# Altium integrated library TI Power Management Lighting and Display.IntLib: 745 symbols (part 39 of 48)
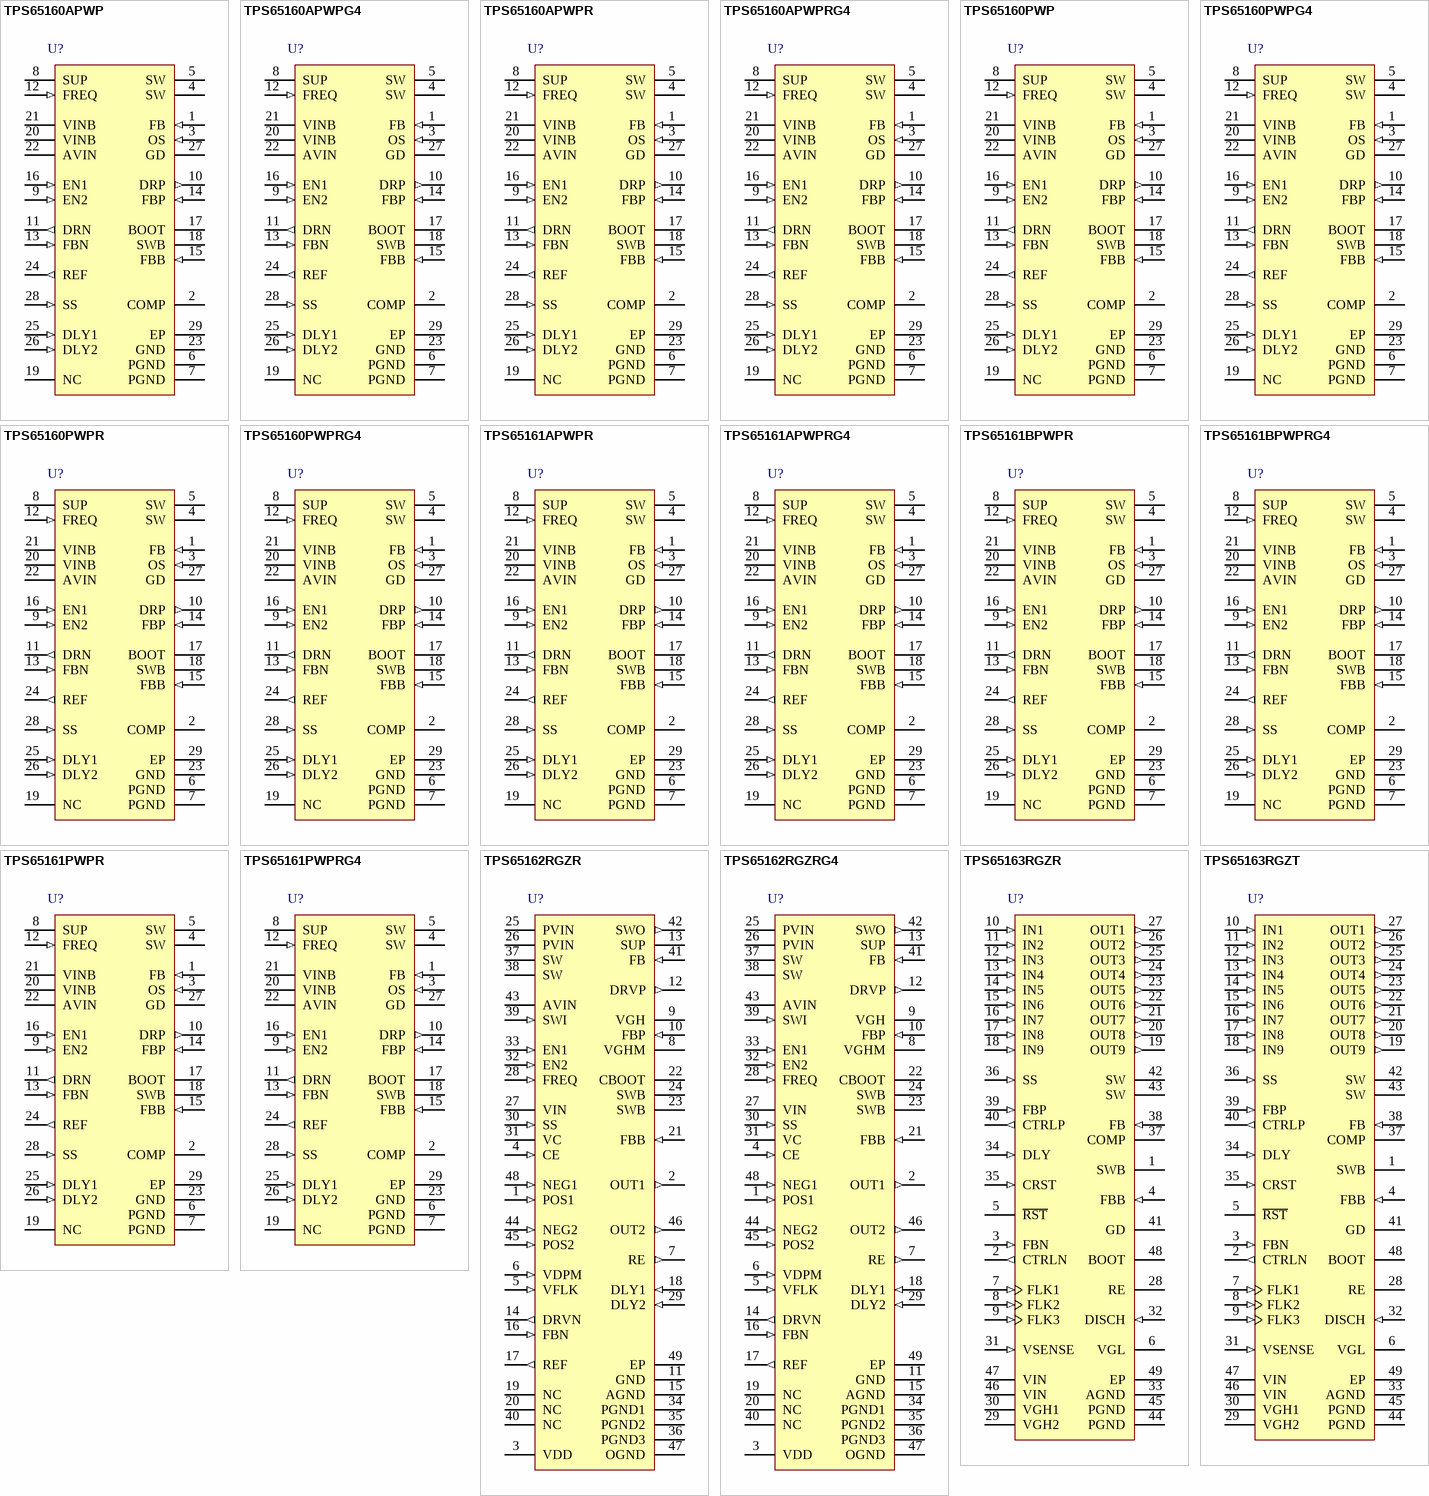
[diagram p69: symbols TPS65160APWP to TPS65163RGZT]

## TPS65161BPWPRG4
designator U?
4-Channel LCD Bias, 8 to 14.7 V, -40 to 85 degC, 28-pin SOP (PWP28), Green (RoHS & no Sb/Br); Manufacturer: Texas Instruments; PartNumber: TPS65161BPWPRG4; Rating: Catalog; SubFamily: LCD/OLED Display Bias Solutions; Switching Frequency(Typ)(kHz): 500, 750; Topology: Buck, Boost, Inverting Buck/Boost; Vin(Max)(V): 14.7; Vin(Min)(V): 8; DatasheetVersion: SLVS617D; PackageVersion: 4073225-6/I; PackageReference: PWP28-5720X1950TP; PackageDescription: 28-Pin Plastic Small Outline, Body 4.4 x 9.7 mm, Pitch 0.65 mm; Supplier 1: Digi-Key; Supplier Part Number 1: TPS65161BPWPRG4-ND; Supplier 2: Mouser; Supplier Part Number 2: 595-TPS65161BPWPRG4; Eco-Plan: Green (RoHS & no Sb/Br); Mounting Technology: Surface Mount; Code_JEDEC: MO-153; ComponentLink1Description: Manufacturer URL; ComponentLink1URL: http://www.ti.com/; ComponentLink2Description: Datasheet; ComponentLink2URL: http://www.ti.com/general/docs/lit/getliterature.tsp?genericPartNumber=TPS65161B&fileType=pdf; ComponentLink3Description: Package Specification; ComponentLink3URL: http://www.ti.com/litv/pdf/mpds373
footprint TI-PWP28-5720X1950TP_N (SOP, 28-Leads, Body 9.7x4.4mm, Pitch 0.65mm, Thermal Pad 5.72 x 1.95mm, IPC Medium Density)
footprint TI-PWP28-5720X1950TP_L (SOP, 28-Leads, Body 9.7x4.4mm, Pitch 0.65mm, Thermal Pad 5.72 x 1.95mm, IPC High Density)
footprint TI-PWP28-5720X1950TP_M (SOP, 28-Leads, Body 9.7x4.4mm, Pitch 0.65mm, Thermal Pad 5.72 x 1.95mm, IPC Low Density)
pins: 1 FB (in) "Feedback of the main boost converter generating Vsource (VS).", 2 COMP "This is the compensation pin for the main boost converter. A small capacitor and, if required, a resistor is connected to this pin.", 3 OS (in) "Output sense pin. The OS pin is connected to the internal rectifier switch and overvoltage protection comparator. This pin needs to be connected to the output of the boost converter and cannot be connected to any other (See Datasheet)", 4 SW (power) "Switch pin of the boost converter generating Vsource (VS).", 5 SW (power) "Switch pin of the boost converter generating Vsource (VS).", 6 PGND (power) "Power ground", 7 PGND (power) "Power ground", 8 SUP (power) "This is the supply pin of the positive charge pump driver and can be connected to the input supply VIN or the output of the main boost converter VS. This depends mainly on the desired output voltage VGH and numbers of charge (See Datasheet)", 9 EN2 (in) "The boost converter starts only with EN1 = high, after the step-down converter is enabled. EN2 is the enable pin of the boost converter and positive charge pump. When this pin is pulled high, the boost converter and positive (See Datasheet)", 10 DRP (out) "Drive pin of the positive charge pump.", 11 DRN (out) "Drive pin of the negative charge pump.", 12 FREQ (in) "Frequency adjust pin. This pin allows setting the switching frequency with a logic level to 500 kHz = low and 750 kHz = high.", 13 FBN (in) "Feedback pin of negative charge pump.", 14 FBP (in) "Feedback pin of positive charge pump.", 15 FBB (in) "Feedback pin of the buck converter", 16 EN1 (in) "This is the enable pin of the buck converter and negative charge pump. When this pin is pulled high, the buck converter starts up, and after a delay time set by DLY1, the negative charge pump comes up. This pin must be (See Datasheet)", 17 BOOT "N-channel MOSFET gate drive voltage for the buck converter. Connect a capacitor from the switch node SWB to this pin.", 18 SWB (power) "Switch pin of the buck converter", 19 NC "Not connected", 20 VINB (power) "Power input voltage pin for the buck converter.", 21 VINB (power) "Power input voltage pin for the buck converter.", 22 AVIN (power) "Analog input voltage of the device. This is the input for the analog circuits of the device and should be bypassed with a 1-uF ceramic capacitor for good filtering.", 23 GND (power) "Analog ground", 24 REF (out) "Internal reference output typically 1.213 V. A 220-nF capacitor needs to be connected to this pin.", 25 DLY1 (in) "Connecting a capacitor from this pin to GND allows the setting of the delay time between V(LOGIC) (step-down converter output high) to VGL during start-up.", 26 DLY2 (in) "Connecting a capacitor from this pin to GND allows the setting of the delay time between V(LOGIC) (step-down converter output high) to VS boost converter and positive charge-pump VGH during start-up.", 27 GD (hiz) "This is the gate drive pin which can be used to control an external MOSFET switch to provide input to output isolation of VS or VGH. See the circuit diagrams at the end of this data sheet. GD is an open-drain output and is (See Datasheet)", 28 SS (in) "This pin allows setting the soft-start time for the main boost converter VS. Typically a 22-nF capacitor needs to be connected to this pin to set the soft-start time.", 29 EP (power) "The thermally enhanced PowerPAD is connected to PGND."

## TPS65161PWPR
designator U?
4-Channel LCD Bias, 8 to 14.7 V, -40 to 85 degC, 28-pin SOP (PWP28), Green (RoHS & no Sb/Br); Manufacturer: Texas Instruments; PartNumber: TPS65161PWPR; Rating: Catalog; SubFamily: LCD/OLED Display Bias Solutions; Switching Frequency(Typ)(kHz): 750, 500; Topology: Buck, Boost, Inverting Buck/Boost; Vin(Max)(V): 14.7; Vin(Min)(V): 8; DatasheetVersion: SLVS617D; PackageVersion: 4073225-6/I; PackageReference: PWP28-5720X1950TP; PackageDescription: 28-Pin Plastic Small Outline, Body 4.4 x 9.7 mm, Pitch 0.65 mm; Supplier 1: Digi-Key; Supplier Part Number 1: 296-19673-2-ND; Supplier 2: Digi-Key; Supplier Part Number 2: 296-19673-1-ND; Supplier 3: Digi-Key; Supplier Part Number 3: 296-19673-6-ND; Supplier 4: Newark; Supplier Part Number 4: 88K7078; Supplier 5: Mouser; Supplier Part Number 5: 595-TPS65161PWPR; Eco-Plan: Green (RoHS & no Sb/Br); Mounting Technology: Surface Mount; Code_JEDEC: MO-153; ComponentLink1Description: Manufacturer URL; ComponentLink1URL: http://www.ti.com/; ComponentLink2Description: Datasheet; ComponentLink2URL: http://www.ti.com/general/docs/lit/getliterature.tsp?genericPartNumber=TPS65161&fileType=pdf; ComponentLink3Description: Package Specification; ComponentLink3URL: http://www.ti.com/litv/pdf/mpds373
footprint TI-PWP28-5720X1950TP_N (SOP, 28-Leads, Body 9.7x4.4mm, Pitch 0.65mm, Thermal Pad 5.72 x 1.95mm, IPC Medium Density)
footprint TI-PWP28-5720X1950TP_L (SOP, 28-Leads, Body 9.7x4.4mm, Pitch 0.65mm, Thermal Pad 5.72 x 1.95mm, IPC High Density)
footprint TI-PWP28-5720X1950TP_M (SOP, 28-Leads, Body 9.7x4.4mm, Pitch 0.65mm, Thermal Pad 5.72 x 1.95mm, IPC Low Density)
pins: 1 FB (in) "Feedback of the main boost converter generating Vsource (VS).", 2 COMP "This is the compensation pin for the main boost converter. A small capacitor and, if required, a resistor is connected to this pin.", 3 OS (in) "Output sense pin. The OS pin is connected to the internal rectifier switch and overvoltage protection comparator. This pin needs to be connected to the output of the boost converter and cannot be connected to any other (See Datasheet)", 4 SW (power) "Switch pin of the boost converter generating Vsource (VS).", 5 SW (power) "Switch pin of the boost converter generating Vsource (VS).", 6 PGND (power) "Power ground", 7 PGND (power) "Power ground", 8 SUP (power) "This is the supply pin of the positive charge pump driver and can be connected to the input supply VIN or the output of the main boost converter VS. This depends mainly on the desired output voltage VGH and numbers of charge (See Datasheet)", 9 EN2 (in) "The boost converter starts only with EN1 = high, after the step-down converter is enabled. EN2 is the enable pin of the boost converter and positive charge pump. When this pin is pulled high, the boost converter and positive (See Datasheet)", 10 DRP (out) "Drive pin of the positive charge pump.", 11 DRN (out) "Drive pin of the negative charge pump.", 12 FREQ (in) "Frequency adjust pin. This pin allows setting the switching frequency with a logic level to 500 kHz = low and 750 kHz = high.", 13 FBN (in) "Feedback pin of negative charge pump.", 14 FBP (in) "Feedback pin of positive charge pump.", 15 FBB (in) "Feedback pin of the buck converter", 16 EN1 (in) "This is the enable pin of the buck converter and negative charge pump. When this pin is pulled high, the buck converter starts up, and after a delay time set by DLY1, the negative charge pump comes up. This pin must be (See Datasheet)", 17 BOOT "N-channel MOSFET gate drive voltage for the buck converter. Connect a capacitor from the switch node SWB to this pin.", 18 SWB (power) "Switch pin of the buck converter", 19 NC "Not connected", 20 VINB (power) "Power input voltage pin for the buck converter.", 21 VINB (power) "Power input voltage pin for the buck converter.", 22 AVIN (power) "Analog input voltage of the device. This is the input for the analog circuits of the device and should be bypassed with a 1-uF ceramic capacitor for good filtering.", 23 GND (power) "Analog ground", 24 REF (out) "Internal reference output typically 1.213 V. A 220-nF capacitor needs to be connected to this pin.", 25 DLY1 (in) "Connecting a capacitor from this pin to GND allows the setting of the delay time between V(LOGIC) (step-down converter output high) to VGL during start-up.", 26 DLY2 (in) "Connecting a capacitor from this pin to GND allows the setting of the delay time between V(LOGIC) (step-down converter output high) to VS boost converter and positive charge-pump VGH during start-up.", 27 GD (hiz) "This is the gate drive pin which can be used to control an external MOSFET switch to provide input to output isolation of VS or VGH. See the circuit diagrams at the end of this data sheet. GD is an open-drain output and is (See Datasheet)", 28 SS (in) "This pin allows setting the soft-start time for the main boost converter VS. Typically a 22-nF capacitor needs to be connected to this pin to set the soft-start time.", 29 EP (power) "The thermally enhanced PowerPAD is connected to PGND."

## TPS65161PWPRG4
designator U?
4-Channel LCD Bias, 8 to 14.7 V, -40 to 85 degC, 28-pin SOP (PWP28), Green (RoHS & no Sb/Br); Manufacturer: Texas Instruments; PartNumber: TPS65161PWPRG4; Rating: Catalog; SubFamily: LCD/OLED Display Bias Solutions; Switching Frequency(Typ)(kHz): 750, 500; Topology: Buck, Boost, Inverting Buck/Boost; Vin(Max)(V): 14.7; Vin(Min)(V): 8; DatasheetVersion: SLVS617D; PackageVersion: 4073225-6/I; PackageReference: PWP28-5720X1950TP; PackageDescription: 28-Pin Plastic Small Outline, Body 4.4 x 9.7 mm, Pitch 0.65 mm; Supplier 1: Digi-Key; Supplier Part Number 1: TPS65161PWPRG4-ND; Supplier 2: Mouser; Supplier Part Number 2: 595-TPS65161PWPRG4; Eco-Plan: Green (RoHS & no Sb/Br); Mounting Technology: Surface Mount; Code_JEDEC: MO-153; ComponentLink1Description: Manufacturer URL; ComponentLink1URL: http://www.ti.com/; ComponentLink2Description: Datasheet; ComponentLink2URL: http://www.ti.com/general/docs/lit/getliterature.tsp?genericPartNumber=TPS65161&fileType=pdf; ComponentLink3Description: Package Specification; ComponentLink3URL: http://www.ti.com/litv/pdf/mpds373
footprint TI-PWP28-5720X1950TP_N (SOP, 28-Leads, Body 9.7x4.4mm, Pitch 0.65mm, Thermal Pad 5.72 x 1.95mm, IPC Medium Density)
footprint TI-PWP28-5720X1950TP_L (SOP, 28-Leads, Body 9.7x4.4mm, Pitch 0.65mm, Thermal Pad 5.72 x 1.95mm, IPC High Density)
footprint TI-PWP28-5720X1950TP_M (SOP, 28-Leads, Body 9.7x4.4mm, Pitch 0.65mm, Thermal Pad 5.72 x 1.95mm, IPC Low Density)
pins: 1 FB (in) "Feedback of the main boost converter generating Vsource (VS).", 2 COMP "This is the compensation pin for the main boost converter. A small capacitor and, if required, a resistor is connected to this pin.", 3 OS (in) "Output sense pin. The OS pin is connected to the internal rectifier switch and overvoltage protection comparator. This pin needs to be connected to the output of the boost converter and cannot be connected to any other (See Datasheet)", 4 SW (power) "Switch pin of the boost converter generating Vsource (VS).", 5 SW (power) "Switch pin of the boost converter generating Vsource (VS).", 6 PGND (power) "Power ground", 7 PGND (power) "Power ground", 8 SUP (power) "This is the supply pin of the positive charge pump driver and can be connected to the input supply VIN or the output of the main boost converter VS. This depends mainly on the desired output voltage VGH and numbers of charge (See Datasheet)", 9 EN2 (in) "The boost converter starts only with EN1 = high, after the step-down converter is enabled. EN2 is the enable pin of the boost converter and positive charge pump. When this pin is pulled high, the boost converter and positive (See Datasheet)", 10 DRP (out) "Drive pin of the positive charge pump.", 11 DRN (out) "Drive pin of the negative charge pump.", 12 FREQ (in) "Frequency adjust pin. This pin allows setting the switching frequency with a logic level to 500 kHz = low and 750 kHz = high.", 13 FBN (in) "Feedback pin of negative charge pump.", 14 FBP (in) "Feedback pin of positive charge pump.", 15 FBB (in) "Feedback pin of the buck converter", 16 EN1 (in) "This is the enable pin of the buck converter and negative charge pump. When this pin is pulled high, the buck converter starts up, and after a delay time set by DLY1, the negative charge pump comes up. This pin must be (See Datasheet)", 17 BOOT "N-channel MOSFET gate drive voltage for the buck converter. Connect a capacitor from the switch node SWB to this pin.", 18 SWB (power) "Switch pin of the buck converter", 19 NC "Not connected", 20 VINB (power) "Power input voltage pin for the buck converter.", 21 VINB (power) "Power input voltage pin for the buck converter.", 22 AVIN (power) "Analog input voltage of the device. This is the input for the analog circuits of the device and should be bypassed with a 1-uF ceramic capacitor for good filtering.", 23 GND (power) "Analog ground", 24 REF (out) "Internal reference output typically 1.213 V. A 220-nF capacitor needs to be connected to this pin.", 25 DLY1 (in) "Connecting a capacitor from this pin to GND allows the setting of the delay time between V(LOGIC) (step-down converter output high) to VGL during start-up.", 26 DLY2 (in) "Connecting a capacitor from this pin to GND allows the setting of the delay time between V(LOGIC) (step-down converter output high) to VS boost converter and positive charge-pump VGH during start-up.", 27 GD (hiz) "This is the gate drive pin which can be used to control an external MOSFET switch to provide input to output isolation of VS or VGH. See the circuit diagrams at the end of this data sheet. GD is an open-drain output and is (See Datasheet)", 28 SS (in) "This pin allows setting the soft-start time for the main boost converter VS. Typically a 22-nF capacitor needs to be connected to this pin to set the soft-start time.", 29 EP (power) "The thermally enhanced PowerPAD is connected to PGND."

## TPS65162RGZR
designator U?
4-Channel LCD Bias with Integrated Input-to-Output Isolation Switch, 2 Op-Amps & GPM, 8 to 14.7 V, -40 to 85 degC, 48-pin QFN (RGZ48), Green (RoHS & no Sb/Br); Manufacturer: Texas Instruments; PartNumber: TPS65162RGZR; Rating: Catalog; SubFamily: LCD/OLED Display Bias Solutions; Switching Frequency(Typ)(kHz): 750, 500; Vin(Max)(V): 14.7; Vin(Min)(V): 8; DatasheetVersion: SLVS771C; PackageVersion: 4204101/F; PackageReference: RGZ48-4100X4100TP; PackageDescription: 48-Pin Plastic Flat Pack, Body 7 x 7 mm, Pitch 0.5 mm; Supplier 1: Digi-Key; Supplier Part Number 1: 296-21974-2-ND; Supplier 2: Digi-Key; Supplier Part Number 2: 296-21974-1-ND; Supplier 3: Digi-Key; Supplier Part Number 3: 296-21974-6-ND; Supplier 4: Newark; Supplier Part Number 4: 46M9314; Supplier 5: Mouser; Supplier Part Number 5: 595-TPS65162RGZR; Eco-Plan: Green (RoHS & no Sb/Br); Mounting Technology: Surface Mount; Code_JEDEC: MO-220; ComponentLink1Description: Manufacturer URL; ComponentLink1URL: http://www.ti.com/; ComponentLink2Description: Datasheet; ComponentLink2URL: http://www.ti.com/general/docs/lit/getliterature.tsp?genericPartNumber=TPS65162&fileType=pdf; ComponentLink3Description: Package Specification; ComponentLink3URL: http://www.ti.com/lit/ds/symlink/sn75dp139.pdf
footprint TI-RGZ48-4100X4100TP_V (QFN, 48-Leads, Body 7x7mm, Pitch 0.5mm, Thermal Pad 4.1x4.1mm)
pins: 1 POS1 (in) "Non inverting input of Operational Amplifier 1", 2 OUT1 (out) "Output of Operational Amplifier 1.", 3 VDD (power) "Threshold voltage of gate voltage shaping. The tive times of voltage applied to this pin set the threshold discharge voltage for the gate voltage shaping function", 4 CE (in) "Delay of gate voltage shaping. Sets the delay between the falling edge of VFLK to the falling edge of VGHM", 5 VFLK (in) "Control of gate voltage shaping.", 6 VDPM (in) "Enable of gate voltage shaping block.", 7 RE (out) "Slope adjustment of gate voltage shaping. Connecting a resistor to this pin allows to adjust the slop of gate voltage shaping.", 8 VGHM (hiz) "Output of the gate voltage shaping block.", 9 VGH (power) "High voltage for gate voltage shaping block. Connect the output of the positive charge pump to this pin.", 10 FBP (in) "Feedback of the positive charge pump.", 11 GND (power) "Ground for positive and negative charge pump.", 12 DRVP (out) "Drive pin of the positive charge pump.", 13 SUP (power) "Supply pin of the positive charge pump", 14 DRVN (out) "Drive pin of the negative charge pump", 15 AGND (power) "Analog ground", 16 FBN (in) "Feedback of the negative charge pump.", 17 REF (out) "Internal reference output. Connect 220-nF capacitor directly from this pin to AGND to minimize possible noise coupling into the reference of the IC.", 18 DLY1 (in) "Connecting a capacitor from this pin to GND allows setting the delay time between the step down converter and negative charge pump VGL", 19 NC "Not connected.", 20 NC "Not connected.", 21 FBB (in) "Feedback of the buck converter.", 22 CBOOT (power) "N-channel MOSFET gate drive voltage for the buck converter. Connect a capacitor from this pin to SWB.", 23 SWB (power) "Switch pin of the buck converter", 24 SWB (power) "Switch pin of the buck converter", 25 PVIN (power) "Power input for the buck converter.", 26 PVIN (power) "Power input for the buck converter.", 27 VIN (power) "Analog input voltage of the device. This pin should be bypassed with a 1-uF capacitor for good filtering.", 28 FREQ (in) "Frequency selection pin. With FREQ=high, the device operates with 750 kHz. With FREQ=Iow, the device operates with 500kHz.", 29 DLY2 (in) "Connecting a capacitor from this pin to GND allows setting the delay time between the step down converter and positive charge pump VGH.", 30 SS (in) "soft-start of the boost converter. Connect a capacitor from this pin to GND.", 31 VC (power) "Compensation pin of the boost converter.", 32 EN2 (in) "Enable pin of the boost converter block.", 33 EN1 (in) "Enable pin of the buck converter and negative charge pump. When this pin is pulled high, the buck converter starts up, and after a delay time set by DLY1, the negative charge pump starts up. A logic high enables the device (See Datasheet)", 34 PGND1 (power) "Power ground.", 35 PGND2 (power) "Ground for boost converter.", 36 PGND3 (power) "Ground for boost converter.", 37 SW (power) "Switch pin of the boost converter", 38 SW (power) "Switch pin of the boost converter", 39 SWI (in) "Input of the isolation switch. The SWI pin is connected to internal overvoltage protection comparator.", 40 NC "Not connected.", 41 FB (in) "Feedback of the boost converter generating Vs", 42 SWO (out) "Output of the isolation switch", 43 AVIN (power) "Power input voltage pin for Operational Amplifier. Connect AVIN to the input of the isolation switch, SWI Bypass this pin with a 1-uF bypass capacitor.", 44 NEG2 (in) "Inverting input of Operational Amplifier 2", 45 POS2 (in) "Non inverting input of Operational Amplifier 2", 46 OUT2 (out) "Output of Operational Amplifier 2", 47 OGND (power) "Ground for Operational Amplifier.", 48 NEG1 (in) "Inverting input of Operational Amplifier 1", 49 EP (power)

## TPS65162RGZRG4
designator U?
4-Channel LCD Bias with Integrated Input-to-Output Isolation Switch, 2 Op-Amps & GPM, 8 to 14.7 V, -40 to 85 degC, 48-pin QFN (RGZ48), Green (RoHS & no Sb/Br); Manufacturer: Texas Instruments; PartNumber: TPS65162RGZRG4; Rating: Catalog; SubFamily: LCD/OLED Display Bias Solutions; Switching Frequency(Typ)(kHz): 750, 500; Vin(Max)(V): 14.7; Vin(Min)(V): 8; DatasheetVersion: SLVS771C; PackageVersion: 4204101/F; PackageReference: RGZ48-4100X4100TP; PackageDescription: 48-Pin Plastic Flat Pack, Body 7 x 7 mm, Pitch 0.5 mm; Supplier 1: Digi-Key; Supplier Part Number 1: TPS65162RGZRG4-ND; Supplier 2: Newark; Supplier Part Number 2: 52M6149; Supplier 3: Mouser; Supplier Part Number 3: 595-TPS65162RGZRG4; Eco-Plan: Green (RoHS & no Sb/Br); Mounting Technology: Surface Mount; Code_JEDEC: MO-220; ComponentLink1Description: Manufacturer URL; ComponentLink1URL: http://www.ti.com/; ComponentLink2Description: Datasheet; ComponentLink2URL: http://www.ti.com/general/docs/lit/getliterature.tsp?genericPartNumber=TPS65162&fileType=pdf; ComponentLink3Description: Package Specification; ComponentLink3URL: http://www.ti.com/lit/ds/symlink/sn75dp139.pdf
footprint TI-RGZ48-4100X4100TP_V (QFN, 48-Leads, Body 7x7mm, Pitch 0.5mm, Thermal Pad 4.1x4.1mm)
pins: 1 POS1 (in) "Non inverting input of Operational Amplifier 1", 2 OUT1 (out) "Output of Operational Amplifier 1.", 3 VDD (power) "Threshold voltage of gate voltage shaping. The tive times of voltage applied to this pin set the threshold discharge voltage for the gate voltage shaping function", 4 CE (in) "Delay of gate voltage shaping. Sets the delay between the falling edge of VFLK to the falling edge of VGHM", 5 VFLK (in) "Control of gate voltage shaping.", 6 VDPM (in) "Enable of gate voltage shaping block.", 7 RE (out) "Slope adjustment of gate voltage shaping. Connecting a resistor to this pin allows to adjust the slop of gate voltage shaping.", 8 VGHM (hiz) "Output of the gate voltage shaping block.", 9 VGH (power) "High voltage for gate voltage shaping block. Connect the output of the positive charge pump to this pin.", 10 FBP (in) "Feedback of the positive charge pump.", 11 GND (power) "Ground for positive and negative charge pump.", 12 DRVP (out) "Drive pin of the positive charge pump.", 13 SUP (power) "Supply pin of the positive charge pump", 14 DRVN (out) "Drive pin of the negative charge pump", 15 AGND (power) "Analog ground", 16 FBN (in) "Feedback of the negative charge pump.", 17 REF (out) "Internal reference output. Connect 220-nF capacitor directly from this pin to AGND to minimize possible noise coupling into the reference of the IC.", 18 DLY1 (in) "Connecting a capacitor from this pin to GND allows setting the delay time between the step down converter and negative charge pump VGL", 19 NC "Not connected.", 20 NC "Not connected.", 21 FBB (in) "Feedback of the buck converter.", 22 CBOOT (power) "N-channel MOSFET gate drive voltage for the buck converter. Connect a capacitor from this pin to SWB.", 23 SWB (power) "Switch pin of the buck converter", 24 SWB (power) "Switch pin of the buck converter", 25 PVIN (power) "Power input for the buck converter.", 26 PVIN (power) "Power input for the buck converter.", 27 VIN (power) "Analog input voltage of the device. This pin should be bypassed with a 1-uF capacitor for good filtering.", 28 FREQ (in) "Frequency selection pin. With FREQ=high, the device operates with 750 kHz. With FREQ=Iow, the device operates with 500kHz.", 29 DLY2 (in) "Connecting a capacitor from this pin to GND allows setting the delay time between the step down converter and positive charge pump VGH.", 30 SS (in) "soft-start of the boost converter. Connect a capacitor from this pin to GND.", 31 VC (power) "Compensation pin of the boost converter.", 32 EN2 (in) "Enable pin of the boost converter block.", 33 EN1 (in) "Enable pin of the buck converter and negative charge pump. When this pin is pulled high, the buck converter starts up, and after a delay time set by DLY1, the negative charge pump starts up. A logic high enables the device (See Datasheet)", 34 PGND1 (power) "Power ground.", 35 PGND2 (power) "Ground for boost converter.", 36 PGND3 (power) "Ground for boost converter.", 37 SW (power) "Switch pin of the boost converter", 38 SW (power) "Switch pin of the boost converter", 39 SWI (in) "Input of the isolation switch. The SWI pin is connected to internal overvoltage protection comparator.", 40 NC "Not connected.", 41 FB (in) "Feedback of the boost converter generating Vs", 42 SWO (out) "Output of the isolation switch", 43 AVIN (power) "Power input voltage pin for Operational Amplifier. Connect AVIN to the input of the isolation switch, SWI Bypass this pin with a 1-uF bypass capacitor.", 44 NEG2 (in) "Inverting input of Operational Amplifier 2", 45 POS2 (in) "Non inverting input of Operational Amplifier 2", 46 OUT2 (out) "Output of Operational Amplifier 2", 47 OGND (power) "Ground for Operational Amplifier.", 48 NEG1 (in) "Inverting input of Operational Amplifier 1", 49 EP (power)

## TPS65163RGZR
designator U?
4-Channel LCD Bias with Integrated 9-Channel Level Shifter, 8.6 to 14.7 V, -40 to 85 degC, 48-pin QFN (RGZ48), Green (RoHS & no Sb/Br); Manufacturer: Texas Instruments; PartNumber: TPS65163RGZR; Iout(Max)(A): 2; Iq(Typ)(mA): 5; Rating: Catalog; SubFamily: LCD/OLED Display Bias Solutions; Switching Frequency(Typ)(kHz): 750; Topology: Buck, Boost, Charge Pump; Vin(Max)(V): 14.7; Vin(Min)(V): 8.6; DatasheetVersion: SLVSA28; PackageVersion: 4204101/F; PackageReference: RGZ48-5600X5600TP; PackageDescription: 48-Lead, Plastic Flat Pack, Body Size 7 x 7 mm, Pitch 0.5 mm; Supplier 1: Digi-Key; Supplier Part Number 1: 296-25464-2-ND; Supplier 2: Digi-Key; Supplier Part Number 2: 296-25464-1-ND; Supplier 3: Digi-Key; Supplier Part Number 3: 296-25464-6-ND; Supplier 4: Newark; Supplier Part Number 4: 55R7630; Supplier 5: Mouser; Supplier Part Number 5: 595-TPS65163RGZR; Eco-Plan: Green (RoHS & no Sb/Br); Mounting Technology: Surface Mount; Code_JEDEC: MO-220; ComponentLink1Description: Manufacturer URL; ComponentLink1URL: http://www.ti.com/; ComponentLink2Description: Datasheet; ComponentLink2URL: http://www.ti.com/general/docs/lit/getliterature.tsp?genericPartNumber=TPS65163&fileType=pdf; ComponentLink3Description: Package Specification; ComponentLink3URL: http://www.ti.com/lit/ml/mpqf123e/mpqf123e.pdf
footprint TI-RGZ48-5600X5600TP_V (QFN, 48-Leads, Body 7x7mm, Pitch 0.5mm, Thermal Pad 5.6x5.6mm)
pins: 1 SWB (power) "Buck converter switch node", 2 CTRLN (out) "Base drive signal for an external transistor positive linear regulator", 3 FBN (in) "Feedback pin for an external transistor positive linear regulator", 4 FBB (in) "Buck converter feedback connection", 5 ~{RST} (oc) "Reset generator open-drain output", 6 VGL (power) "Negative supply voltage for level-shifter channels 1 through 9", 7 FLK1 (in) "Flicker clock for level-shifter channels 1 and 4", 8 FLK2 (in) "Flicker clock for level-shifter channels 2 and 5", 9 FLK3 (in) "Flicker clock for level-shifter channels 3 and 6", 10 IN1 (in) "Inputs for level-shifter channels 1 through 7 (connected to VGH1)", 11 IN2 (in) "Inputs for level-shifter channels 1 through 7 (connected to VGH1)", 12 IN3 (in) "Inputs for level-shifter channels 1 through 7 (connected to VGH1)", 13 IN4 (in) "Inputs for level-shifter channels 1 through 7 (connected to VGH1)", 14 IN5 (in) "Inputs for level-shifter channels 1 through 7 (connected to VGH1)", 15 IN6 (in) "Inputs for level-shifter channels 1 through 7 (connected to VGH1)", 16 IN7 (in) "Inputs for level-shifter channels 1 through 7 (connected to VGH1)", 17 IN8 (in) "Inputs for level-shifter channels 8 and 9 (connected to VGH2)", 18 IN9 (in) "Inputs for level-shifter channels 8 and 9 (connected to VGH2)", 19 OUT9 (out) "Outputs for level-shifter channels 8 and 9 (connected to VGH2)", 20 OUT8 (out) "Outputs for level-shifter channels 8 and 9 (connected to VGH2)", 21 OUT7 (out) "Outputs for level-shifter channels 1 through 7 (connected to VGH1)", 22 OUT6 (out) "Outputs for level-shifter channels 1 through 7 (connected to VGH1)", 23 OUT5 (out) "Outputs for level-shifter channels 1 through 7 (connected to VGH1)", 24 OUT4 (out) "Outputs for level-shifter channels 1 through 7 (connected to VGH1)", 25 OUT3 (out) "Outputs for level-shifter channels 1 through 7 (connected to VGH1)", 26 OUT2 (out) "Outputs for level-shifter channels 1 through 7 (connected to VGH1)", 27 OUT1 (out) "Outputs for level-shifter channels 1 through 7 (connected to VGH1)", 28 RE "Gate shaping slope resistor connection", 29 VGH2 (power) "Positive supply voltage for level-shifter channels 8 and 9", 30 VGH1 (power) "Positive supply voltage for level-shifter channels 1 through 7", 31 VSENSE (in) "Discharge sense voltage", 32 DISCH (in) "Panel discharging connection", 33 AGND (power) "Analog ground", 34 DLY (in) "Positive charge pump and boost converter delay capacitor connection", 35 CRST (in) "Reset generator timing capacitor connection.", 36 SS (in) "Soft-start timing-capacitor connection.", 37 COMP "Boost converter compensation network connection.", 38 FB (in) "Boost regulator feedback. Connect this pin to the center of a resistor divider connected between the boost converter output and AGND.", 39 FBP (in) "Feedback pin for an external transistor negative linear regulator", 40 CTRLP (out) "Base drive signal for an external transistor negative linear regulator", 41 GD (oc) "Gate drive signal for the external MOSFET isolation switch", 42 SW (power) "Boost converter switching node", 43 SW (power) "Boost converter switching node", 44 PGND (power) "Power ground", 45 PGND (power) "Power ground", 46 VIN (power) "Supply-voltage connection", 47 VIN (power) "Supply-voltage connection", 48 BOOT "Buck converter bootstrap capacitor connection", 49 EP (power) "Connect to the system GND"

## TPS65163RGZT
designator U?
4-Channel LCD Bias with Integrated 9-Channel Level Shifter, 8.6 to 14.7 V, -40 to 85 degC, 48-pin QFN (RGZ48), Green (RoHS & no Sb/Br); Manufacturer: Texas Instruments; PartNumber: TPS65163RGZT; Iout(Max)(A): 2; Iq(Typ)(mA): 5; Rating: Catalog; SubFamily: LCD/OLED Display Bias Solutions; Switching Frequency(Typ)(kHz): 750; Topology: Buck, Boost, Charge Pump; Vin(Max)(V): 14.7; Vin(Min)(V): 8.6; DatasheetVersion: SLVSA28; PackageVersion: 4204101/F; PackageReference: RGZ48-5600X5600TP; PackageDescription: 48-Lead, Plastic Flat Pack, Body Size 7 x 7 mm, Pitch 0.5 mm; Supplier 1: Digi-Key; Supplier Part Number 1: TPS65163RGZT-ND; Supplier 2: Newark; Supplier Part Number 2: 55R7631; Supplier 3: Mouser; Supplier Part Number 3: 595-TPS65163RGZT; Eco-Plan: Green (RoHS & no Sb/Br); Mounting Technology: Surface Mount; Code_JEDEC: MO-220; ComponentLink1Description: Manufacturer URL; ComponentLink1URL: http://www.ti.com/; ComponentLink2Description: Datasheet; ComponentLink2URL: http://www.ti.com/general/docs/lit/getliterature.tsp?genericPartNumber=TPS65163&fileType=pdf; ComponentLink3Description: Package Specification; ComponentLink3URL: http://www.ti.com/lit/ml/mpqf123e/mpqf123e.pdf
footprint TI-RGZ48-5600X5600TP_V (QFN, 48-Leads, Body 7x7mm, Pitch 0.5mm, Thermal Pad 5.6x5.6mm)
pins: 1 SWB (power) "Buck converter switch node", 2 CTRLN (out) "Base drive signal for an external transistor positive linear regulator", 3 FBN (in) "Feedback pin for an external transistor positive linear regulator", 4 FBB (in) "Buck converter feedback connection", 5 ~{RST} (oc) "Reset generator open-drain output", 6 VGL (power) "Negative supply voltage for level-shifter channels 1 through 9", 7 FLK1 (in) "Flicker clock for level-shifter channels 1 and 4", 8 FLK2 (in) "Flicker clock for level-shifter channels 2 and 5", 9 FLK3 (in) "Flicker clock for level-shifter channels 3 and 6", 10 IN1 (in) "Inputs for level-shifter channels 1 through 7 (connected to VGH1)", 11 IN2 (in) "Inputs for level-shifter channels 1 through 7 (connected to VGH1)", 12 IN3 (in) "Inputs for level-shifter channels 1 through 7 (connected to VGH1)", 13 IN4 (in) "Inputs for level-shifter channels 1 through 7 (connected to VGH1)", 14 IN5 (in) "Inputs for level-shifter channels 1 through 7 (connected to VGH1)", 15 IN6 (in) "Inputs for level-shifter channels 1 through 7 (connected to VGH1)", 16 IN7 (in) "Inputs for level-shifter channels 1 through 7 (connected to VGH1)", 17 IN8 (in) "Inputs for level-shifter channels 8 and 9 (connected to VGH2)", 18 IN9 (in) "Inputs for level-shifter channels 8 and 9 (connected to VGH2)", 19 OUT9 (out) "Outputs for level-shifter channels 8 and 9 (connected to VGH2)", 20 OUT8 (out) "Outputs for level-shifter channels 8 and 9 (connected to VGH2)", 21 OUT7 (out) "Outputs for level-shifter channels 1 through 7 (connected to VGH1)", 22 OUT6 (out) "Outputs for level-shifter channels 1 through 7 (connected to VGH1)", 23 OUT5 (out) "Outputs for level-shifter channels 1 through 7 (connected to VGH1)", 24 OUT4 (out) "Outputs for level-shifter channels 1 through 7 (connected to VGH1)", 25 OUT3 (out) "Outputs for level-shifter channels 1 through 7 (connected to VGH1)", 26 OUT2 (out) "Outputs for level-shifter channels 1 through 7 (connected to VGH1)", 27 OUT1 (out) "Outputs for level-shifter channels 1 through 7 (connected to VGH1)", 28 RE "Gate shaping slope resistor connection", 29 VGH2 (power) "Positive supply voltage for level-shifter channels 8 and 9", 30 VGH1 (power) "Positive supply voltage for level-shifter channels 1 through 7", 31 VSENSE (in) "Discharge sense voltage", 32 DISCH (in) "Panel discharging connection", 33 AGND (power) "Analog ground", 34 DLY (in) "Positive charge pump and boost converter delay capacitor connection", 35 CRST (in) "Reset generator timing capacitor connection.", 36 SS (in) "Soft-start timing-capacitor connection.", 37 COMP "Boost converter compensation network connection.", 38 FB (in) "Boost regulator feedback. Connect this pin to the center of a resistor divider connected between the boost converter output and AGND.", 39 FBP (in) "Feedback pin for an external transistor negative linear regulator", 40 CTRLP (out) "Base drive signal for an external transistor negative linear regulator", 41 GD (oc) "Gate drive signal for the external MOSFET isolation switch", 42 SW (power) "Boost converter switching node", 43 SW (power) "Boost converter switching node", 44 PGND (power) "Power ground", 45 PGND (power) "Power ground", 46 VIN (power) "Supply-voltage connection", 47 VIN (power) "Supply-voltage connection", 48 BOOT "Buck converter bootstrap capacitor connection", 49 EP (power) "Connect to the system GND"

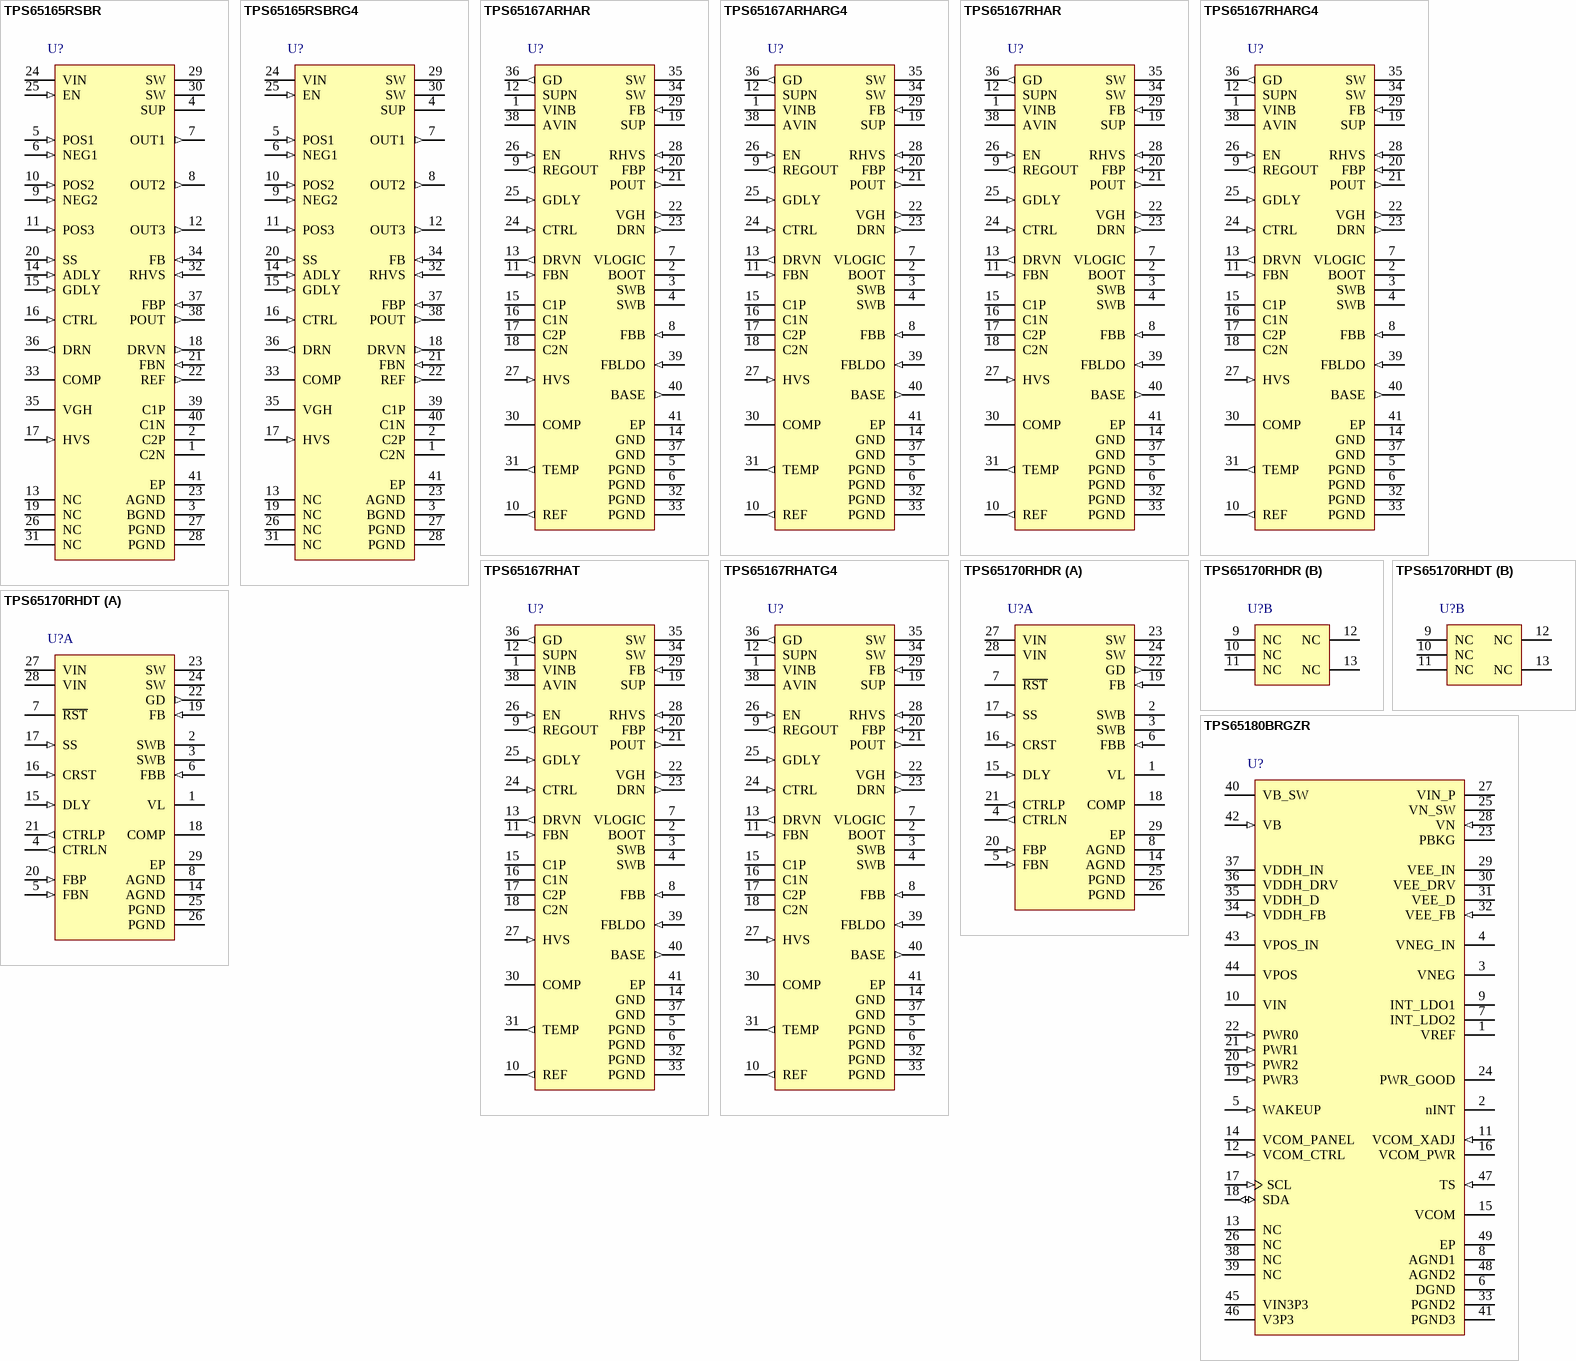
[diagram p25: symbols TPS65165RSBR to TPS65180BRGZR]

## TPS65165RSBR
designator U?
4-Channel LCD Bias with Fully Integrated Postive Charge Pump, 3.3 V LDO Controller, 2.5 to 6 V, -40 to 85 degC, 40-pin QFN (RSB40), Green (RoHS & no Sb/Br); Manufacturer: Texas Instruments; PartNumber: TPS65165RSBR; Iout(Max)(A): 1; Iq(Typ)(mA): 20; Rating: Catalog; SubFamily: LCD/OLED Display Bias Solutions; Switching Frequency(Typ)(kHz): 600; Topology: Boost, Inverting Buck/Boost; Vin(Max)(V): 6; Vin(Min)(V): 2.5; DatasheetVersion: SLVS723A; PackageVersion: 4207182/C; PackageReference: RSB40-3500X3500TP; PackageDescription: 40-Pin Plastic Flat Pack, Body 5 × 5 mm, Pitch 0.4mm; Supplier 1: Digi-Key; Supplier Part Number 1: 296-21429-2-ND; Supplier 2: Digi-Key; Supplier Part Number 2: 296-21429-1-ND; Supplier 3: Digi-Key; Supplier Part Number 3: 296-21429-6-ND; Supplier 4: Newark; Supplier Part Number 4: 27M1099; Supplier 5: Mouser; Supplier Part Number 5: 595-TPS65165RSBR; Eco-Plan: Green (RoHS & no Sb/Br); Mounting Technology: Surface Mount; ComponentLink1Description: Manufacturer URL; ComponentLink1URL: http://www.ti.com/; ComponentLink2Description: Datasheet; ComponentLink2URL: http://www.ti.com/general/docs/lit/getliterature.tsp?genericPartNumber=TPS65165&fileType=pdf; ComponentLink3Description: Package Specification; ComponentLink3URL: http://www.ti.com/lit/ml/mpqf185b/mpqf185b.pdf
footprint TI-RSB40-3500X3500TP_V (QFN, 40-Leads, Body 5x5mm, Pitch 0.4mm, Thermal Pad 3.5x3.5mm)
pins: 1 C2N "Negative terminal of the flying capacitor for the positive charge pump. Typically a 330nF flying capacitor is required.", 2 C2P "Positive terminal of the flying capacitor for the positive charge pump. Typically a 330nF flying capacitor is required.", 3 BGND (power) "Low noise ground for the operational amplifier.", 4 SUP (power) "Supply input for the operational amplifier and charge pump stages. Connect to the main output Vs, with a 1-uF bypass capacitor.", 5 POS1 (in) "Non-inverting input of Operational Amplifier 1.", 6 NEG1 (in) "Inverting input of the Operational Amplifier 1.", 7 OUT1 (out) "Output of Operational Amplifier 1. When the device is disabled, the output is pulled to GND via a 1-kohm resistor.", 8 OUT2 (out) "Output of Operational Amplifier 2. When the device is disabled, the output is pulled to GND via a 1-kohm resistor.", 9 NEG2 (in) "Inverting input of Operational Amplifier 2.", 10 POS2 (in) "Non-inverting input of Operational Amplifier 2.", 11 POS3 (in) "Non-inverting input of Operational Amplifier 3.", 12 OUT3 (out) "Output of Operational Amplifier 3. When the device is disabled, the output is pulled to GND via a 1-kohm resistor.", 13 NC "Not connected. These pin can be connected to GND to improve the thermal resistance of the package.", 14 ADLY (in) "Adjustable EN high-to-start-up delay of the main boost converter, negative and positive charge pump. Connect a capacitor from this pin to GND to set the desired delay time. (See SETTING THE DELAY TIMES ADLY, GDLY)", 15 GDLY (in) "Adjustable EN high-to-enable delay of the high-voltage switch Q8 (gate voltage shaping). Connect a capacitor from this pin to GND to set the desired delay time. (See SETTING THE DELAY TIMES ADLY, GDLY)", 16 CTRL (in) "Logic control input for the internal high voltage switch (gate voltage shaping).", 17 HVS (in) "Logic control input to enable High Voltage Stress Test. With HVS=low the high voltage stress test is disabled. With HVS=high the high voltage stress test is enabled.", 18 DRVN (out) "Drive pin for the negative charge pump converter generating VGL. Using a single stage charge pump inverts the voltage present at the main boost converter Vs and regulates it down to the desired voltage programmed by the (See Datasheet)", 19 NC "Not connected. These pin can be connected to GND to improve the thermal resistance of the package.", 20 SS (in) "Softstart for the main boost converter generating Vs. Connect a capacitor to this pin to set the softstart time.", 21 FBN (in) "Feedback of the negative charge pump converter.", 22 REF (out) "Reference output. Connect a 220-nF capacitor directly from REF pin to AGND to minimize possible noise coupling into the reference of the IC.", 23 AGND (power) "Analog Ground , positive and negative charge pump ground.", 24 VIN (power) "Supply pin for the IC. Bypass this pin with a 1-uF capacitor directly to GND.", 25 EN (in) "Enable pin of the IC. EN=high enables the IC. EN= low disables the IC. This pin must be terminated.", 26 NC "Not connected. These pin can be connected to GND to improve the thermal resistance of the package.", 27 PGND (power) "Power Ground for the boost converter.", 28 PGND (power) "Power Ground for the boost converter.", 29 SW (power) "Switch pin of the boost regulator generating Vs", 30 SW (power) "Switch pin of the boost regulator generating Vs", 31 NC "Not connected. These pin can be connected to GND to improve the thermal resistance of the package.", 32 RHVS (in) "This resistor sets the voltage of the boost converter Vs when the High Voltage Stress test is enabled. HVS=high). With HVS=high the RHVS pin is pulled to GND which sets the output voltage for the boost converter. When HVS is (See Datasheet)", 33 COMP "Compensation for the regulation loop of the boost converter generating Vs.", 34 FB (in) "Feedback of the boost converter generating Vs.", 35 VGH (power) "This is the output voltage of the internal high voltage switch, controlled by the CTRL signal.", 36 DRN (out) "Connect the discharge resistor for the Gate voltage shaping to this pin.", 37 FBP (in) "This is the feedback for the positive charge pump converter generating VGH", 38 POUT (out) "Output of the positive charge pump which is internally connected to the high voltage switch Q2. Connect a 1-uF output capacitor to this pin as well as the feedback divider to set the output voltage for the positive charge (See Datasheet)", 39 C1P "Positive terminal of the flying capacitor for the positive charge pump. Typically a 330-nF flying capacitor is required.", 40 C1N "Negative terminal of the flying capacitor for the positive charge pump. Typically a 330-nF flying capacitor is required.", 41 EP (power) "The exposed thermal die is connected to AGNG."

## TPS65165RSBRG4
designator U?
4-Channel LCD Bias with Fully Integrated Postive Charge Pump, 3.3 V LDO Controller, 2.5 to 6 V, -40 to 85 degC, 40-pin QFN (RSB40), Green (RoHS & no Sb/Br); Manufacturer: Texas Instruments; PartNumber: TPS65165RSBRG4; Iout(Max)(A): 1; Iq(Typ)(mA): 20; Rating: Catalog; SubFamily: LCD/OLED Display Bias Solutions; Switching Frequency(Typ)(kHz): 600; Topology: Boost, Inverting Buck/Boost; Vin(Max)(V): 6; Vin(Min)(V): 2.5; DatasheetVersion: SLVS723A; PackageVersion: 4207182/C; PackageReference: RSB40-3500X3500TP; PackageDescription: 40-Pin Plastic Flat Pack, Body 5 × 5 mm, Pitch 0.4mm; Supplier 1: Digi-Key; Supplier Part Number 1: TPS65165RSBRG4-ND; Supplier 2: Newark; Supplier Part Number 2: 28M7824; Supplier 3: Mouser; Supplier Part Number 3: 595-TPS65165RSBRG4; Eco-Plan: Green (RoHS & no Sb/Br); Mounting Technology: Surface Mount; ComponentLink1Description: Manufacturer URL; ComponentLink1URL: http://www.ti.com/; ComponentLink2Description: Datasheet; ComponentLink2URL: http://www.ti.com/general/docs/lit/getliterature.tsp?genericPartNumber=TPS65165&fileType=pdf; ComponentLink3Description: Package Specification; ComponentLink3URL: http://www.ti.com/lit/ml/mpqf185b/mpqf185b.pdf
footprint TI-RSB40-3500X3500TP_V (QFN, 40-Leads, Body 5x5mm, Pitch 0.4mm, Thermal Pad 3.5x3.5mm)
pins: 1 C2N "Negative terminal of the flying capacitor for the positive charge pump. Typically a 330nF flying capacitor is required.", 2 C2P "Positive terminal of the flying capacitor for the positive charge pump. Typically a 330nF flying capacitor is required.", 3 BGND (power) "Low noise ground for the operational amplifier.", 4 SUP (power) "Supply input for the operational amplifier and charge pump stages. Connect to the main output Vs, with a 1-uF bypass capacitor.", 5 POS1 (in) "Non-inverting input of Operational Amplifier 1.", 6 NEG1 (in) "Inverting input of the Operational Amplifier 1.", 7 OUT1 (out) "Output of Operational Amplifier 1. When the device is disabled, the output is pulled to GND via a 1-kohm resistor.", 8 OUT2 (out) "Output of Operational Amplifier 2. When the device is disabled, the output is pulled to GND via a 1-kohm resistor.", 9 NEG2 (in) "Inverting input of Operational Amplifier 2.", 10 POS2 (in) "Non-inverting input of Operational Amplifier 2.", 11 POS3 (in) "Non-inverting input of Operational Amplifier 3.", 12 OUT3 (out) "Output of Operational Amplifier 3. When the device is disabled, the output is pulled to GND via a 1-kohm resistor.", 13 NC "Not connected. These pin can be connected to GND to improve the thermal resistance of the package.", 14 ADLY (in) "Adjustable EN high-to-start-up delay of the main boost converter, negative and positive charge pump. Connect a capacitor from this pin to GND to set the desired delay time. (See SETTING THE DELAY TIMES ADLY, GDLY)", 15 GDLY (in) "Adjustable EN high-to-enable delay of the high-voltage switch Q8 (gate voltage shaping). Connect a capacitor from this pin to GND to set the desired delay time. (See SETTING THE DELAY TIMES ADLY, GDLY)", 16 CTRL (in) "Logic control input for the internal high voltage switch (gate voltage shaping).", 17 HVS (in) "Logic control input to enable High Voltage Stress Test. With HVS=low the high voltage stress test is disabled. With HVS=high the high voltage stress test is enabled.", 18 DRVN (out) "Drive pin for the negative charge pump converter generating VGL. Using a single stage charge pump inverts the voltage present at the main boost converter Vs and regulates it down to the desired voltage programmed by the (See Datasheet)", 19 NC "Not connected. These pin can be connected to GND to improve the thermal resistance of the package.", 20 SS (in) "Softstart for the main boost converter generating Vs. Connect a capacitor to this pin to set the softstart time.", 21 FBN (in) "Feedback of the negative charge pump converter.", 22 REF (out) "Reference output. Connect a 220-nF capacitor directly from REF pin to AGND to minimize possible noise coupling into the reference of the IC.", 23 AGND (power) "Analog Ground , positive and negative charge pump ground.", 24 VIN (power) "Supply pin for the IC. Bypass this pin with a 1-uF capacitor directly to GND.", 25 EN (in) "Enable pin of the IC. EN=high enables the IC. EN= low disables the IC. This pin must be terminated.", 26 NC "Not connected. These pin can be connected to GND to improve the thermal resistance of the package.", 27 PGND (power) "Power Ground for the boost converter.", 28 PGND (power) "Power Ground for the boost converter.", 29 SW (power) "Switch pin of the boost regulator generating Vs", 30 SW (power) "Switch pin of the boost regulator generating Vs", 31 NC "Not connected. These pin can be connected to GND to improve the thermal resistance of the package.", 32 RHVS (in) "This resistor sets the voltage of the boost converter Vs when the High Voltage Stress test is enabled. HVS=high). With HVS=high the RHVS pin is pulled to GND which sets the output voltage for the boost converter. When HVS is (See Datasheet)", 33 COMP "Compensation for the regulation loop of the boost converter generating Vs.", 34 FB (in) "Feedback of the boost converter generating Vs.", 35 VGH (power) "This is the output voltage of the internal high voltage switch, controlled by the CTRL signal.", 36 DRN (out) "Connect the discharge resistor for the Gate voltage shaping to this pin.", 37 FBP (in) "This is the feedback for the positive charge pump converter generating VGH", 38 POUT (out) "Output of the positive charge pump which is internally connected to the high voltage switch Q2. Connect a 1-uF output capacitor to this pin as well as the feedback divider to set the output voltage for the positive charge (See Datasheet)", 39 C1P "Positive terminal of the flying capacitor for the positive charge pump. Typically a 330-nF flying capacitor is required.", 40 C1N "Negative terminal of the flying capacitor for the positive charge pump. Typically a 330-nF flying capacitor is required.", 41 EP (power) "The exposed thermal die is connected to AGNG."